# Altium footprint library Arduino.PcbLib: 2 footprints
Each footprint in its own frame and in the unit in brackets; x right, y up, seen from the top. Pads: shape width x height; smd on the part's side, far side on the other; paste and mask are expansions set on the pad; w line width, h text height; cw(c..) or ccw(c..) is an arc to the next point about the centre after c.
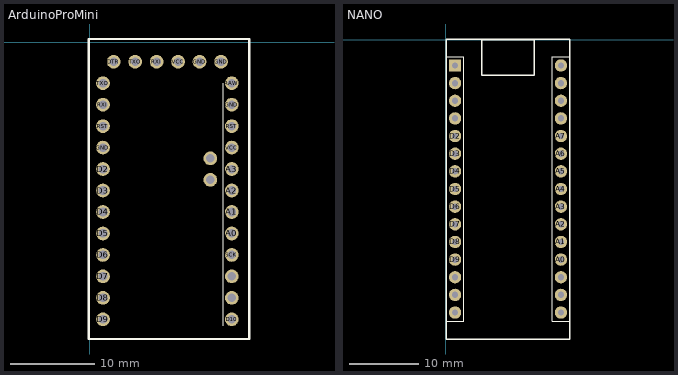
[diagram p0: the footprints below, top view; thin cyan lines are the x and y axes]

## ArduinoProMini [mil]
height 196.85
pads (32):
  round 64 hole 40: A0(661.38,-890.9) A1(661.38,-790.9) A2(661.38,-690.9) A3(661.38,-590.91) "A4 SDA"(561.38,-640.91) "A5 SCL"(561.38,-540.91) D2(61.38,-590.91) D3(61.38,-690.9) D4(61.38,-790.9) D5(61.38,-890.9) D6(61.38,-990.9) D7(61.38,-1090.9) D8(61.38,-1190.9) D9(61.38,-1290.9) D10(661.38,-1290.9) DTR(111.38,-90.91) GND(61.38,-490.91) GND(511.38,-90.91) GND(611.38,-90.91) GND(661.38,-290.91) MISO(661.38,-1090.9) MOSI(661.38,-1190.9) RAW(661.38,-190.91) RST(61.38,-390.91) RST(661.38,-390.91) RXI(61.38,-290.91) RXI(311.38,-90.91) SCK(661.38,-990.9) TXO(61.38,-190.91) TXO(211.38,-90.91) VCC(411.38,-90.91) VCC(661.38,-490.91)
Top Overlay:
  lines w3: 621.38,-1320.9 621.38,-190.91
  lines w10: -5,-1382.64 743.03,-1382.64 743.03,15 -5,15 -5,-1382.64

## NANO [mil]
pads (30):
  round 70 hole 36: 3V3(653,-1446.88) +5V(653,-446.88) A0(653,-1246.88) A1(653,-1146.88) A2(653,-1046.88) A3(653,-946.88) A4(653,-846.88) A5(653,-746.88) A6(653,-646.88) A7(653,-546.88) AREF(653,-1346.88) COM(53,-446.88) COM(653,-246.88) D0/RX(53,-246.88) D2(53,-546.88) D3(53,-646.88) D4(53,-746.88) D5(53,-846.88) D6(53,-946.88) D7(53,-1046.88) D8(53,-1146.88) D9(53,-1246.88) D10(53,-1346.88) D11/MOSI(53,-1446.88) D12/MISO(53,-1546.88) D13/SCK(653,-1546.88) RST(53,-346.88) RST(653,-346.88) VIN(653,-146.88)
  rect 70x70 hole 36: D1/TX(53,-146.88)
Top Overlay:
  lines w5: 3,-1596.88 3,-96.88 103,-96.88 103,-1596.88 3,-1596.88 ; 203,-200.88 203,-0.88 503,-0.88 503,-200.88 203,-200.88 ; 603,-1596.88 603,-96.88 703,-96.88 703,-1596.88 603,-1596.88
  lines w7.87: 3,-1696.88 3,3.12 703,3.12 703,-1696.88 3,-1696.88
  lines w8: 203,-200.88 203,-0.88 503,-0.88 503,-200.88 203,-200.88